# EAGLE library part SPARKFUN-BATTERY-BABYSITTER (library MITCH Shield)
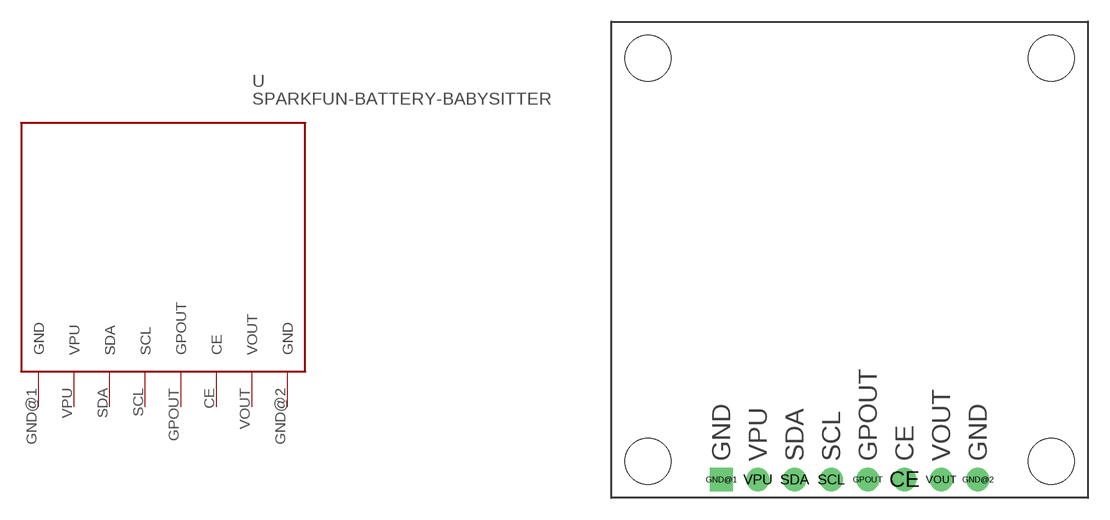
[diagram p5: symbol with the pads of SPARKFUN-BATTERY-BABYSITTER; footprint SPARKFUN-BATTERY-BABYSITTER]

Designator prefix -

## SPARKFUN-BATTERY-BABYSITTER  [SPARKFUN-BATTERY-BABYSITTER]
CE  CE
GND@1  GND
GND@2  GND
GPOUT  GPOUT
SCL  SCL
SDA  SDA
VOUT  VOUT
VPU  VPU

## Footprint SPARKFUN-BATTERY-BABYSITTER (pad centres in mm)
drill 1.07: CE 3.81,-15.24; GND@2 8.89,-15.24; GPOUT 1.27,-15.24; SCL -1.27,-15.24; SDA -3.81,-15.24; VOUT 6.35,-15.24; VPU -6.35,-15.24
drill 1.07 square: GND@1 -8.89,-15.24
hole 3.175 at -13.97,-13.97
hole 3.175 at 13.97,-13.97
hole 3.175 at 13.97,13.97
hole 3.175 at -13.97,13.97